# Altium footprint library PcbLib1.PcbLib: 2 footprints
Each footprint in its own frame and in the unit in brackets; x right, y up, seen from the top. Pads: shape width x height; smd on the part's side, far side on the other; paste and mask are expansions set on the pad; w line width, h text height; cw(c..) or ccw(c..) is an arc to the next point about the centre after c.
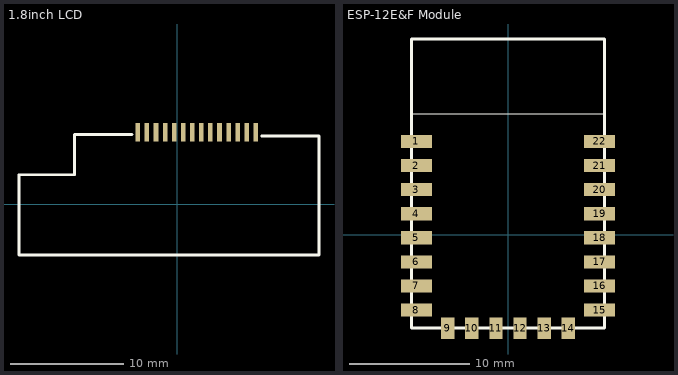
[diagram p0: the footprints below, top view; thin cyan lines are the x and y axes]

## 1.8inch LCD [mm]
pads (14):
  rect 0.4x1.6 smd: 1(6.913,6.364) 2(6.113,6.364) 3(5.313,6.364) 4(4.513,6.364) 5(3.713,6.364) 6(2.913,6.364) 7(2.113,6.364) 8(1.313,6.364) 9(0.513,6.364) 10(-0.287,6.364) 11(-1.087,6.364) 12(-1.887,6.364) 13(-2.687,6.364) 14(-3.487,6.364)
Top Overlay:
  lines w0.254: -13.97,2.555 -13.97,-4.445 12.49,-4.445 12.49,6.043 7.44,6.043 ; -13.97,2.614 -9.07,2.614 -9.07,6.114 ; -9.07,6.17 -4.02,6.17 ; -4.498,6.17 -3.993,6.17

## ESP-12E&F Module [mm]
height 1.2
pads (22):
  rect 2.6x1.1 smd: 1(-7.6,7.75) 2(-7.6,5.75) 3(-7.6,3.75) 4(-7.6,1.75) 5(-7.6,-0.25) 6(-7.6,-2.25) 7(-7.6,-4.25) 8(-7.6,-6.25) 15(7.6,-6.25) 16(7.6,-4.25) 17(7.6,-2.25) 18(7.6,-0.25) 19(7.6,1.75) 20(7.6,3.75) 21(7.6,5.75) 22(7.6,7.75)
  rect 1.1x1.8 smd: 9(-5,-7.75) 10(-3,-7.75) 11(-1,-7.75) 12(1,-7.75) 13(3,-7.75) 14(5,-7.75)
Top Overlay:
  lines w0.1: -8,10.05 8,10.05
  lines w0.254: -8,-7.75 8,-7.75 8,16.25 -8,16.25 -8,-7.75